# Altium footprint library IVV_Passive.PcbLib: 14 footprints
Each footprint in its own frame and in the unit in brackets; x right, y up, seen from the top. Pads: shape width x height; smd on the part's side, far side on the other; paste and mask are expansions set on the pad; w line width, h text height; cw(c..) or ccw(c..) is an arc to the next point about the centre after c.
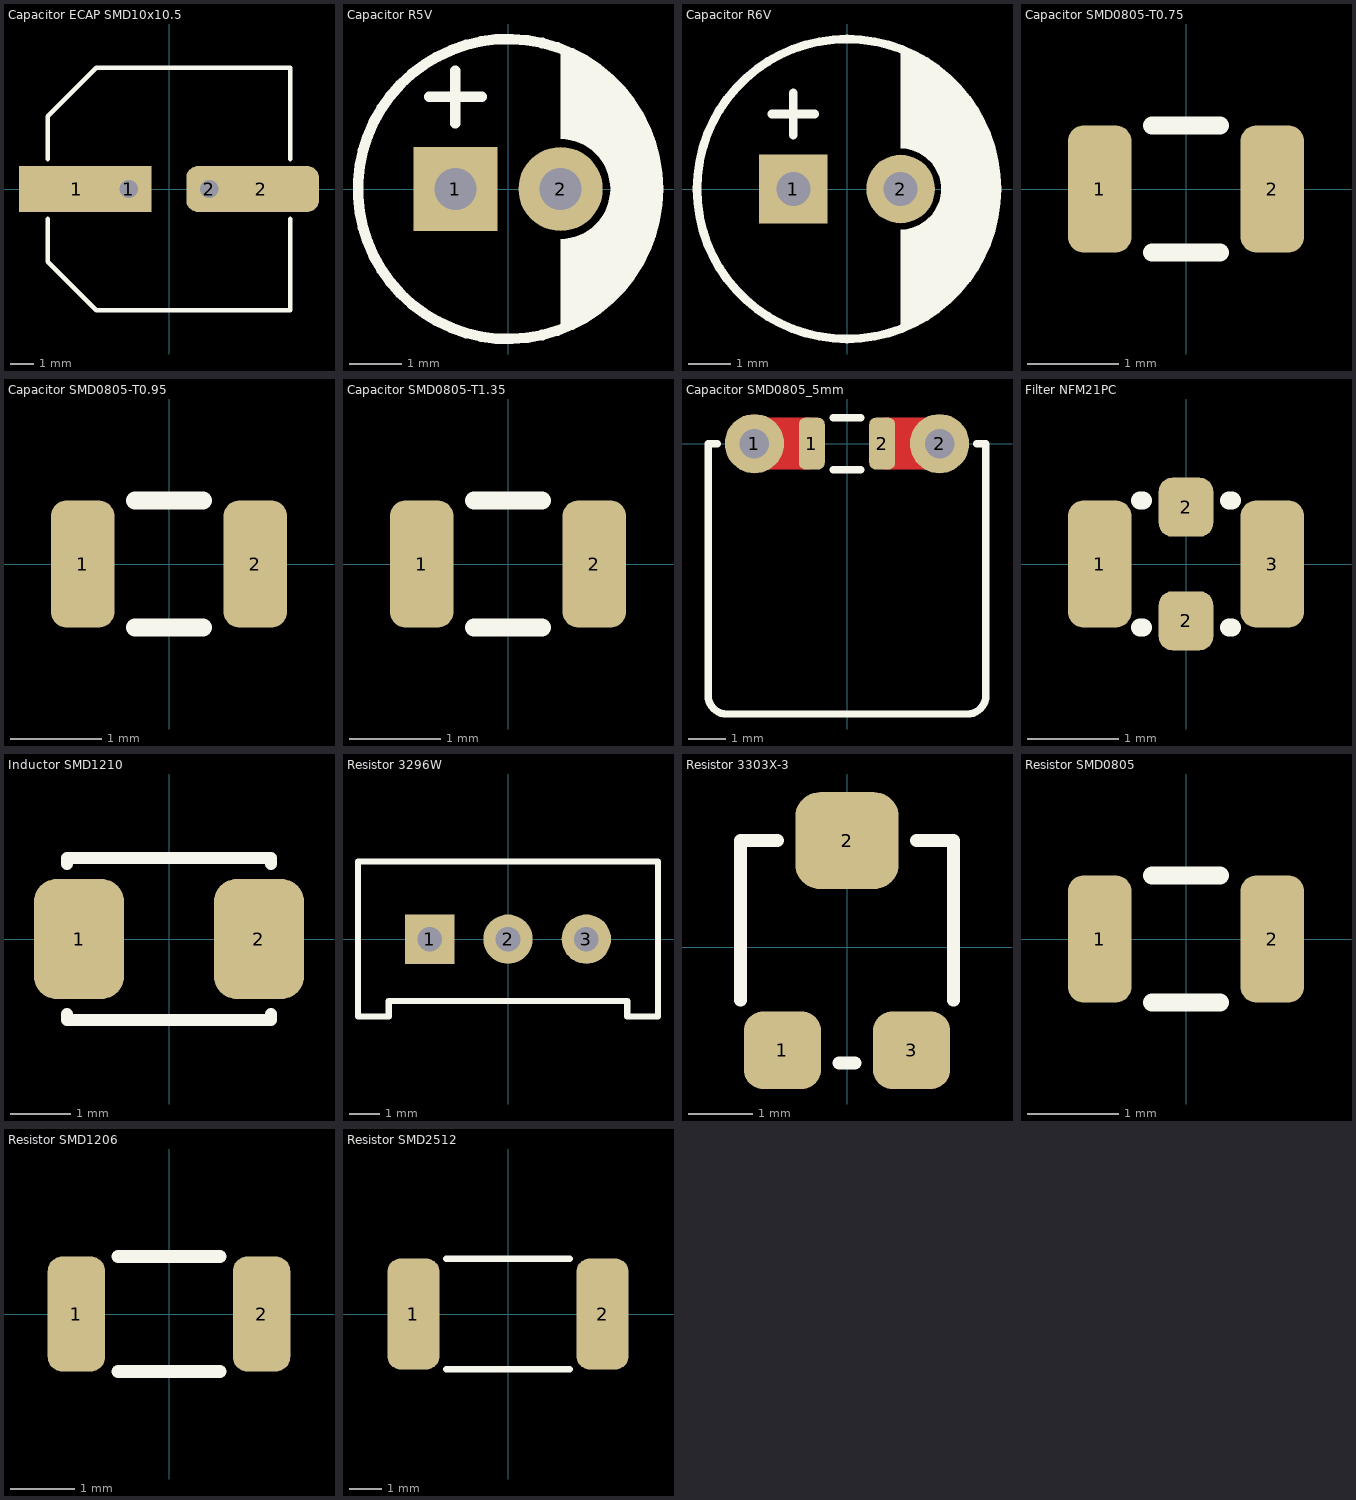
[diagram p0: the footprints below, top view; thin cyan lines are the x and y axes]

## Capacitor ECAP SMD10x10.5 [mm]
pads (4):
  rect 5x2 smd mask+0.075: 1(-4,0)
  rect 2x2 hole 0.8 mask+0.075: 1(-1.75,0)
  rrect50% 2x2 hole 0.8 mask+0.075: 2(1.75,0)
  rrect50% 5x2 smd mask+0.075: 2(4,0)
Top Overlay:
  lines w0.2: -5.25,-1.3 -5.25,-3.15 -3.15,-5.25 5.25,-5.25 5.25,-1.3 ; -5.25,1.3 -5.25,3.15 -3.15,5.25 5.25,5.25 5.25,1.3
3D body "CAPAE-D10.0x10.2.stp": height 10.5, standoff 0, extent -6,-5.25 6,5.25

## Capacitor R5V [mm]
pads (2):
  rect 1.6x1.6 hole 0.8 mask+0.075: 1(-1,0)
  round 1.6 hole 0.8 mask+0.075: 2(1,0)
Top Overlay:
  circle w0.2: c0,0 r2.85
  region: 1,2.669 1.203,2.593 1.58,2.382 1.922,2.116 2.219,1.801 2.466,1.446 2.656,1.057 2.785,0.644 2.85,0.216 2.85,0 2.85,-0.216 2.785,-0.644 2.656,-1.057 2.466,-1.446 2.219,-1.801 1.922,-2.116 1.58,-2.382 1.203,-2.593 1,-2.669 1,-0.95 1.093,-0.945 1.276,-0.909 1.448,-0.838 1.603,-0.734 1.734,-0.603 1.838,-0.448 1.909,-0.276 1.945,-0.093 1.95,0 1.945,0.093 1.909,0.276 1.838,0.448 1.734,0.603 1.603,0.734 1.448,0.838 1.276,0.909 1.093,0.945 1,0.95
  lines w0.2: -1.5,1.75 -0.5,1.75 ; -1,1.25 -1,2.25
3D body "CAP_RAD_D5x11_POL_BK.stp": height 12.5, standoff -2.5, extent -2.75,-2.749 2.75,2.749

## Capacitor R6V [mm]
pads (2):
  rect 1.6x1.6 hole 0.8 mask+0.075: 1(-1.25,0)
  round 1.6 hole 0.8 mask+0.075: 2(1.25,0)
Top Overlay:
  circle w0.2: c0,0 r3.5
  region: 1.25,3.269 1.497,3.175 1.956,2.914 2.372,2.587 2.733,2.202 3.033,1.767 3.264,1.291 3.421,0.787 3.5,0.264 3.5,0 3.5,-0.264 3.421,-0.787 3.264,-1.291 3.033,-1.767 2.733,-2.202 2.372,-2.587 1.956,-2.914 1.497,-3.175 1.25,-3.269 1.25,-0.95 1.343,-0.945 1.526,-0.909 1.698,-0.838 1.853,-0.734 1.984,-0.603 2.088,-0.448 2.159,-0.276 2.195,-0.093 2.2,0 2.195,0.093 2.159,0.276 2.088,0.448 1.984,0.603 1.853,0.734 1.698,0.838 1.526,0.909 1.343,0.945 1.25,0.95
  lines w0.2: -1.75,1.75 -0.75,1.75 ; -1.25,1.25 -1.25,2.25
3D body "CAP_RAD_D6.3x11_POL_BK.stp": height 12.5, standoff -2.5, extent -3.4,-3.399 3.4,3.399

## Capacitor SMD0805-T0.75 [mm]
pads (2):
  rrect50% 0.7x1.4 smd mask+0.075: 1(-0.95,0) 2(0.95,0)
Top Overlay:
  lines w0.2: -0.375,-0.7 0.375,-0.7 ; -0.375,0.7 0.375,0.7
3D body "CAPC-0805-T0.75-BN.stp": height 0.75, standoff 0, extent -1.05,-0.675 1.05,0.675

## Capacitor SMD0805-T0.95 [mm]
pads (2):
  rrect50% 0.7x1.4 smd mask+0.075: 1(-0.95,0) 2(0.95,0)
Top Overlay:
  lines w0.2: -0.375,-0.7 0.375,-0.7 ; -0.375,0.7 0.375,0.7
3D body "CAPC-0805-T0.95-BN.stp": height 0.95, standoff 0, extent -1.05,-0.675 1.05,0.675

## Capacitor SMD0805-T1.35 [mm]
pads (2):
  rrect50% 0.7x1.4 smd mask+0.075: 1(-0.95,0) 2(0.95,0)
Top Overlay:
  lines w0.2: -0.375,-0.7 0.375,-0.7 ; -0.375,0.7 0.375,0.7
3D body "CAPC-0805-T1.35-BN.stp": height 1.35, standoff 0, extent -1.05,-0.675 1.05,0.675

## Capacitor SMD0805_5mm [mm]
pads (4):
  round 1.6 hole 0.8 mask+0.075: 1(-2.5,0) 2(2.5,0)
  rrect50% 0.7x1.4 smd mask+0.075: 1(-0.95,0) 2(0.95,0)
Top Layer:
  region: 2.5,0.7 1,0.7 1,-0.7 2.5,-0.7
  rectangle: -2.5,-0.7 -1,0.7
Top Overlay:
  lines w0.2: -3.5,0 -3.75,0 -3.75,-6.8 ccw(c-3.25,-6.8) -3.25,-7.3 3.25,-7.3 ccw(c3.25,-6.8) 3.75,-6.8 3.75,0 3.5,0 ; -0.375,-0.7 0.375,-0.7 ; -0.375,0.7 0.375,0.7
3D body "CAP_5mm.STEP": height 2.5, standoff -1.8, extent -3.65,-7.2 3.65,0.25

## Filter NFM21PC [mm]
pads (4):
  rrect50% 0.7x1.4 smd mask+0.075: 1(-0.95,0) 3(0.95,0)
  rrect50% 0.6x0.65 smd mask+0.075: 2(0,-0.625) 2(0,0.625)
Top Overlay:
  lines w0.2: -0.507,-0.7 -0.475,-0.7 ; -0.507,0.7 -0.475,0.7 ; 0.475,-0.7 0.507,-0.7 ; 0.475,0.7 0.507,0.7
3D body "NFM21PC.STEP": height 0.87, standoff 0, extent -1.01,-0.635 1.01,0.635

## Inductor SMD1210 [mm]
pads (2):
  rrect50% 1.5x2 smd mask+0.075: 1(-1.5,0) 2(1.5,0)
Top Overlay:
  lines w0.2: -1.7,-1.25 -1.7,-1.35 1.7,-1.35 1.7,-1.25 ; -1.7,1.25 -1.7,1.35 1.7,1.35 1.7,1.25
3D body "User Library-INDM3225X240N.STEP": height 2.4, standoff 0, extent -1.79,-1.35 1.79,1.35

## Resistor 3296W [mm]
pads (3):
  rect 1.6x1.6 hole 0.8 mask+0.075: 1(-2.54,0)
  round 1.6 hole 0.8 mask+0.075: 2(0,0) 3(2.54,0)
Top Overlay:
  lines w0.2: -4.865,-2.51 -4.865,2.52 4.865,2.52 4.865,-2.51 3.865,-2.51 3.865,-2.01 -3.865,-2.01 -3.865,-2.51 -4.865,-2.51
3D body "3296W.stp": height 12, standoff -5.1, extent -4.89,-2.5 4.89,2.46

## Resistor 3303X-3 [mm]
pads (3):
  rrect50% 1.2x1.2 smd mask+0.075: 1(-1,-1.6) 3(1,-1.6)
  rrect50% 1.6x1.5 smd mask+0.075: 2(0,1.65)
Top Overlay:
  lines w0.2: -1.65,-0.825 -1.65,1.65 -1.075,1.65 ; -0.125,-1.8 0.125,-1.8 ; 1.075,1.65 1.65,1.65 1.65,-0.825
3D body "EVM3ESX50Bxx-Panasonic.STEP": height 1.62, standoff 0, extent -1.55,-1.95 1.55,1.85

## Resistor SMD0805 [mm]
pads (2):
  rrect50% 0.7x1.4 smd mask+0.075: 1(-0.95,0) 2(0.95,0)
Top Overlay:
  lines w0.2: -0.375,-0.7 0.375,-0.7 ; -0.375,0.7 0.375,0.7
3D body "RESC-0805.stp": height 0.6, standoff 0, extent -1.05,-0.675 1.05,0.675

## Resistor SMD1206 [mm]
pads (2):
  rrect50% 0.9x1.8 smd mask+0.075: 1(-1.45,0) 2(1.45,0)
Top Overlay:
  lines w0.2: -0.8,-0.9 0.8,-0.9 ; -0.8,0.9 0.8,0.9
3D body "RESC-1206.stp": height 0.65, standoff 0, extent -1.65,-0.85 1.65,0.85

## Resistor SMD2512 [mm]
pads (2):
  rrect50% 1.6x3.4 smd mask+0.075: 1(-2.9,0) 2(2.9,0)
Top Overlay:
  lines w0.2: -1.9,-1.7 1.9,-1.7 ; -1.9,1.7 1.9,1.7
3D body "RESC-2512.stp": height 0.65, standoff 0, extent -3.2,-1.65 3.2,1.65